# Altium schematic symbol library 853-43-020-20-001000.SchLib: 1 symbol
Pins are listed as number, name and electrical type; pins without a type are passive.

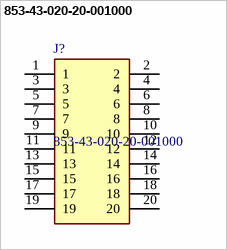
[diagram p0: symbol 853-43-020-20-001000]

## 853-43-020-20-001000
designator J?
IC & Component Sockets STANDARD SOCKET HEADER; Manufacturer_Name: Mill-Max; Geometry.Height: 3.05mm; Mouser Part Number: 575-8534302020001000; Mouser Price/Stock: https://www.mouser.co.uk/ProductDetail/Mill-Max/853-43-020-20-001000?qs=s8Nb1z4Wn%2FSdjHDJ6X1ElA%3D%3D; Manufacturer_Part_Number: 853-43-020-20-001000; Datasheet Link: https://www.mill-max.com/catalog/download/2017-11%3A034.pdf
footprint 8534302020001000
pins: 1, 2, 3, 4, 5, 6, 7, 8, 9, 10, 11, 12, 13, 14, 15, 16, 17, 18, 19, 20